# Altium footprint library Common-Parts-Library.PcbLib: 530 footprints (part 34 of 34)
Each footprint in its own frame and in the unit in brackets; x right, y up, seen from the top. Pads: shape width x height; smd on the part's side, far side on the other; paste and mask are expansions set on the pad; w line width, h text height; cw(c..) or ccw(c..) is an arc to the next point about the centre after c.
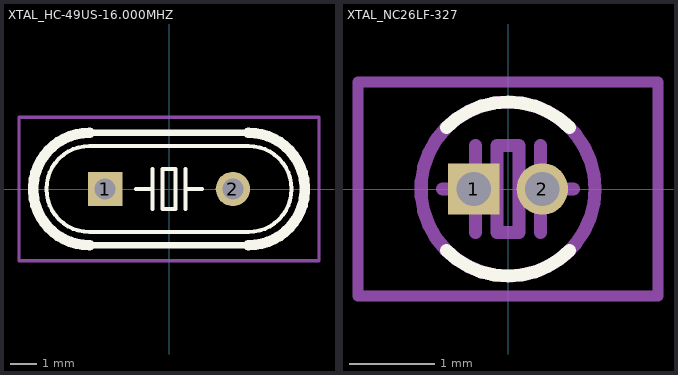
[diagram p33: the footprints below, top view; thin cyan lines are the x and y axes]

## XTAL_HC-49US-16.000MHZ [mil]
pads (2):
  rect 52x52 hole 32: 1(-96.46,0)
  round 52 hole 32: 2(96.46,0)
Top Overlay:
  lines w6: -50,0 -25,0 ; -25,-30 -25,0 ; -25,30 -25,0 ; 25,-30 25,0 ; 25,30 25,0 ; 50,0 25,0 ; -120,-65 cw(c-120,0) -120,65 120,65 cw(c120,0) 120,-65 -120,-65 ; -10,-30 -10,30 10,30 10,-30 -10,-30
  lines w10: -120,-85 120,-85 ; -120,85 120,85
  lines w16: -120,-85 cw(c-120,0) -120,85 ; 120,-85 ccw(c120,0) 120,85
Mechanical 1:
  lines w5: -226.38,-108.27 -226.38,108.27 226.38,108.27 226.38,-108.27 -226.38,-108.27

## XTAL_NC26LF-327 [mm]
pads (2):
  rect 0.6x0.6 hole 0.4: 1(-0.4,0)
  round 0.6 hole 0.4: 2(0.4,0)
Top Overlay:
  lines w0.152: -0.718,-0.718 ccw(c0,0) 0,-1.016 ccw(c0,0) 0.718,-0.718 ; -0.718,0.718 cw(c0,0) 0,1.016 cw(c0,0) 0.718,0.718
Mechanical 1:
  circle w0.152: c0,0 r1.016
  lines w0.127: -1.75,-1.25 -1.75,1.25 1.75,1.25 1.75,-1.25 -1.75,-1.25
  lines w0.152: -0.762,0 -0.381,0 ; -0.381,-0.508 -0.381,0 ; -0.381,0.508 -0.381,0 ; 0.381,-0.508 0.381,0 ; 0.381,0.508 0.381,0 ; 0.762,0 0.381,0 ; -0.127,-0.508 -0.127,0.508 0.127,0.508 0.127,-0.508 -0.127,-0.508